# EAGLE library part TPS565201DDCT (library TPS565201DDCT)
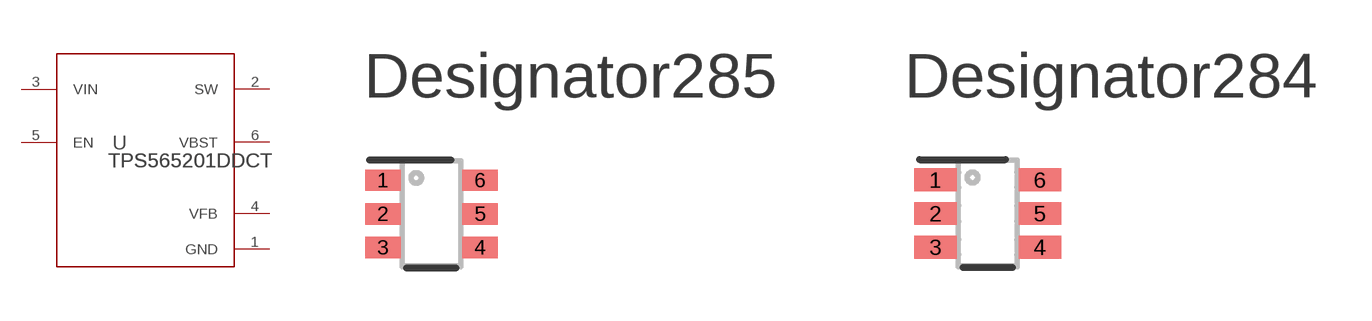
[diagram p0: symbol with the pads of DDC0006A_N; footprints DDC0006A_N, DDC0006A_M]

Designator prefix U

## TPS565201DDCTDDC0006A_N (Copyright: Copyright (C) 2025 Ultra Librarian. All rights reserved.; Manufacturer_Part_Number: TPS565201DDCT; Mfr_Name: Texas Instruments; RefDes: RefDes; TYPE: TYPE)  [DDC0006A_N]
1  GND  pwr
2  SW  pwr
3  VIN  pwr
4  VFB  in
5  EN  in
6  VBST  pwr

## TPS565201DDCTDDC0006A_M (Copyright: Copyright (C) 2025 Ultra Librarian. All rights reserved.; Manufacturer_Part_Number: TPS565201DDCT; Mfr_Name: Texas Instruments; RefDes: RefDes; TYPE: TYPE)  [DDC0006A_M]
Pads as for DDC0006A_N

## TPS565201DDCTDDC0006A_L (Copyright: Copyright (C) 2025 Ultra Librarian. All rights reserved.; Manufacturer_Part_Number: TPS565201DDCT; Mfr_Name: Texas Instruments; RefDes: RefDes; TYPE: TYPE)  [DDC0006A_L]
Pads as for DDC0006A_N

## Footprint DDC0006A_N (pad centres in mm)
smd 1 x 0.6: 1 -1.375,0.95; 2 -1.375,0; 3 -1.375,-0.95; 4 1.375,-0.95; 5 1.375,0; 6 1.375,0.95

## Footprint DDC0006A_M (pad centres in mm)
smd 1.2 x 0.65: 1 -1.475,0.95; 2 -1.475,0; 3 -1.475,-0.95; 4 1.475,-0.95; 5 1.475,0; 6 1.475,0.95

## Footprint DDC0006A_L (pad centres in mm)
smd 0.8 x 0.55: 1 -1.275,0.95; 2 -1.275,0; 3 -1.275,-0.95; 4 1.275,-0.95; 5 1.275,0; 6 1.275,0.95